# Altium footprint library 接口.PCBLIB: 266 footprints (part 4 of 17)
Each footprint in its own frame and in the unit in brackets; x right, y up, seen from the top. Pads: shape width x height; smd on the part's side, far side on the other; paste and mask are expansions set on the pad; w line width, h text height; cw(c..) or ccw(c..) is an arc to the next point about the centre after c.
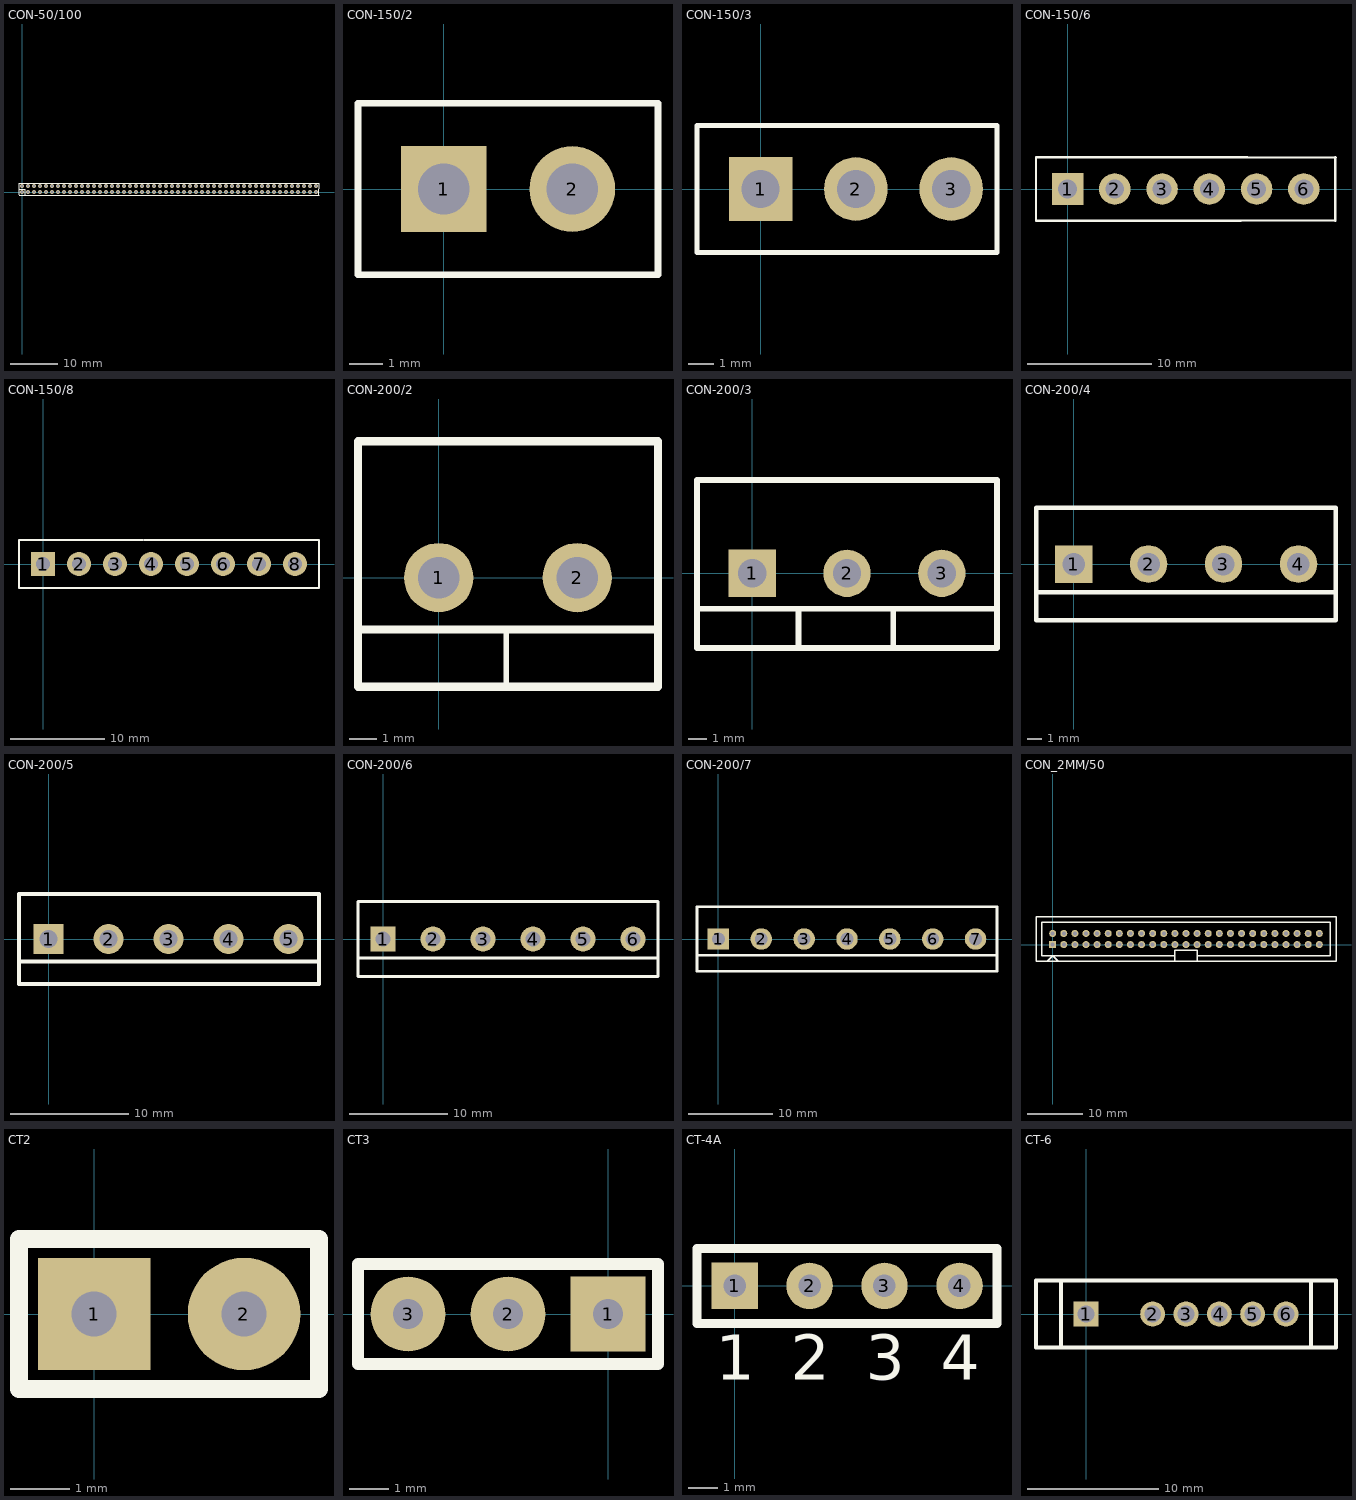
[diagram p3: the footprints below, top view; thin cyan lines are the x and y axes]

## CON-50/100 [mil]
pads (100):
  oval 31x36 hole 24: 1(0,0) 2(0,50) 3(50,0) 4(50,50) 5(100,0) 6(100,50) 7(150,0) 8(150,50) 9(200,0) 10(200,50) 11(250,0) 12(250,50) 13(300,0) 14(300,50) 15(350,0) 16(350,50) 17(400,0) 18(400,50) 19(450,0) 20(450,50) 21(500,0) 22(500,50) 23(550,0) 24(550,50) 25(600,0) 26(600,50) 27(650,0) 28(650,50) 29(700,0) 30(700,50) 31(750,0) 32(750,50) 33(800,0) 34(800,50) 35(850,0) 36(850,50) 37(900,0) 38(900,50) 39(950,0) 40(950,50) 41(1000,0) 42(1000,50) 43(1050,0) 44(1050,50) 45(1100,0) 46(1100,50) 47(1150,0) 48(1150,50) 49(1200,0) 50(1200,50) 51(1250,0) 52(1250,50) 53(1300,0) 54(1300,50) 55(1350,0) 56(1350,50) 57(1400,0) 58(1400,50) 59(1450,0) 60(1450,50) 61(1500,0) 62(1500,50) 63(1550,0) 64(1550,50) 65(1600,0) 66(1600,50) 67(1650,0) 68(1650,50) 69(1700,0) 70(1700,50) 71(1750,0) 72(1750,50) 73(1800,0) 74(1800,50) 75(1850,0) 76(1850,50) 77(1900,0) 78(1900,50) 79(1950,0) 80(1950,50) 81(2000,0) 82(2000,50) 83(2050,0) 84(2050,50) 85(2100,0) 86(2100,50) 87(2150,0) 88(2150,50) 89(2200,0) 90(2200,50) 91(2250,0) 92(2250,50) 93(2300,0) 94(2300,50) 95(2350,0) 96(2350,50) 97(2400,0) 98(2400,50) 99(2450,0) 100(2450,50)
TopOverlay:
  lines w8: -25,-25 2475,-25 ; -25,-23.43 -25,75 2475,75 2475,-23.43 ; -25,25 26.18,25 ; 25,-22.24 25,25

## CON-150/2 [mil]
pads (2):
  rect 100x100 hole 60: 1(0,0)
  round 100 hole 60: 2(150,0)
TopOverlay:
  lines w7.87: -100,-100 -100,100 250,100 250,-100 -100,-100

## CON-150/3 [mil]
pads (3):
  rect 100x100 hole 60: 1(0,0)
  round 100 hole 60: 2(150,0) 3(300,0)
TopOverlay:
  lines w7.87: -100,-100 -100,100 372,100 372,-100 -100,-100

## CON-150/6 [mil]
pads (6):
  rect 100x100 hole 60: 1(0,0)
  round 100 hole 60: 2(150,0) 3(300,0) 4(450,0) 5(600,0) 6(750,0)
TopOverlay:
  lines w7.85: 550,-100 850,-100 ; 570,100 852,100
  lines w7.87: 410,-100 550,-100 ; 415,-100 -100,-100 -100,100 415,100 ; 420,100 570,100 ; 850,-100 850,100

## CON-150/8 [mil]
pads (8):
  rect 100x100 hole 60: 1(0,0)
  round 100 hole 60: 2(150,0) 3(300,0) 4(450,0) 5(600,0) 6(750,0) 7(900,0) 8(1050,0)
TopOverlay:
  lines w7.85: 550,-100 1150,-100 ; 570,100 1150,100
  lines w7.87: 410,-100 550,-100 ; 415,-100 -100,-100 -100,100 415,100 ; 420,100 570,100 ; 1150,-100 1150,100

## CON-200/2 [mil]
pads (2):
  round 100 hole 60: 1(0,0) 2(200,0)
TopOverlay:
  lines w8: 97.64,-150 97.64,-75
  lines w12: -116.53,-74.8 316.54,-74.8 ; 314.96,-157.48 -116.53,-157.48 -116.53,196.85 316.54,196.85 316.54,-157.48

## CON-200/3 [mil]
pads (3):
  rect 100x100 hole 60: 1(0,0)
  round 100 hole 60: 2(200,0) 3(400,0)
TopOverlay:
  lines w12: -115,-75 516.53,-74.8 ; 83.47,-157.48 514.96,-157.48 ; 83.47,196.85 516.53,196.85 516.53,-157.48 ; 97.64,-150 97.64,-75 ; 297.64,-150 297.64,-75 ; 314.96,-157.48 -116.53,-157.48 -116.53,196.85 316.54,196.85

## CON-200/4 [mil]
pads (4):
  rect 100x100 hole 60: 1(0,0)
  round 100 hole 60: 2(200,0) 3(400,0) 4(600,0)
TopOverlay:
  lines w12: -100,-75 700,-75 ; -100,-150 -100,150 700,150 700,-150 -100,-150

## CON-200/5 [mil]
pads (5):
  rect 100x100 hole 60: 1(0,0)
  round 100 hole 60: 2(200,0) 3(400,0) 4(600,0) 5(800,0)
TopOverlay:
  lines w12: -98.42,-75 901.58,-75 ; -98.42,-150 901.58,-150 901.58,150 501.57,150 -98.42,150 -98.42,-150

## CON-200/6 [mil]
pads (6):
  rect 100x100 hole 60: 1(0,0)
  round 100 hole 60: 2(200,0) 3(400,0) 4(600,0) 5(800,0) 6(1000,0)
TopOverlay:
  lines w12: -100,-75 1100,-75 ; -100,-150 -100,150 1100,150 1100,-150 -100,-150

## CON-200/7 [mil]
pads (7):
  rect 100x100 hole 60: 1(0,0)
  round 100 hole 60: 2(200,0) 3(400,0) 4(600,0) 5(800,0) 6(1000,0) 7(1200,0)
TopOverlay:
  lines w12: -100,-75 1300,-75 ; -100,-150 -100,150 1300,150 1300,-150 -100,-150

## CON_2MM/50 [mm]
pads (50):
  rect 1.27x1.27 hole 0.711: 1(0,0)
  round 1.27 hole 0.711: 2(0,2) 3(2,0) 4(2,2) 5(4,0) 6(4,2) 7(6,0) 8(6,2) 9(8,0) 10(8,2) 11(10,0) 12(10,2) 13(12,0) 14(12,2) 15(14,0) 16(14,2) 17(16,0) 18(16,2) 19(18,0) 20(18,2) 21(20,0) 22(20,2) 23(22,0) 24(22,2) 25(24,0) 26(24,2) 27(26,0) 28(26,2) 29(28,0) 30(28,2) 31(30,0) 32(30,2) 33(32,0) 34(32,2) 35(34,0) 36(34,2) 37(36,0) 38(36,2) 39(38,0) 40(38,2) 41(40,0) 42(40,2) 43(42,0) 44(42,2) 45(44,0) 46(44,2) 47(46,0) 48(46,2) 49(48,0) 50(48,2)
TopOverlay:
  lines w0.254: -1,-3 0,-2 ; 1,-3 0,-2 ; 22,-3 22,-1 26,-1 26,-3 ; 22,-2 -2,-2 -2,4 50,4 50,-2 26,-2 ; 0,-2 0,-2 ; 0,-2 0,-2 ; -3,-3 51,-3 51,5 -3,5 -3,-3

## CT2 [mil]
pads (2):
  rect 75x75 hole 30: 1(0,0)
  round 75 hole 30: 2(100,0)
TopOverlay:
  lines w12: -50,-50 150,-50 150,50 -50,50 -50,-50

## CT3 [mil]
pads (3):
  rect 75x75 hole 30: 1(0,0)
  round 75 hole 30: 2(-100,0) 3(-200,0)
TopOverlay:
  lines w12: -250,-50 50,-50 50,50 -250,50 -250,-50

## CT-4A [mil]
pads (4):
  rect 62x62 hole 30: 1(0,0)
  round 62 hole 30: 2(100,0) 3(200,0) 4(300,0)
TopOverlay:
  lines w12: -50,-50 350,-50 350,50 -50,50 -50,-50
  text "1" at -25,-125 h60
  text "2" at 75,-125 h60
  text "3" at 175,-125 h60
  text "4" at 275,-125 h60

## CT-6 [mil]
pads (6):
  rect 75x75 hole 50: 1(0,0)
  round 75 hole 50: 2(200,0) 3(300,0) 4(400,0) 5(500,0) 6(600,0)
TopOverlay:
  lines w12: -75,-100 -75,100 ; 675,-100 675,100 ; -150,-100 -150,100 750,100 750,-100 -150,-100